# Altium integrated library TI Power Management Battery Management.IntLib: 949 symbols (part 55 of 62)
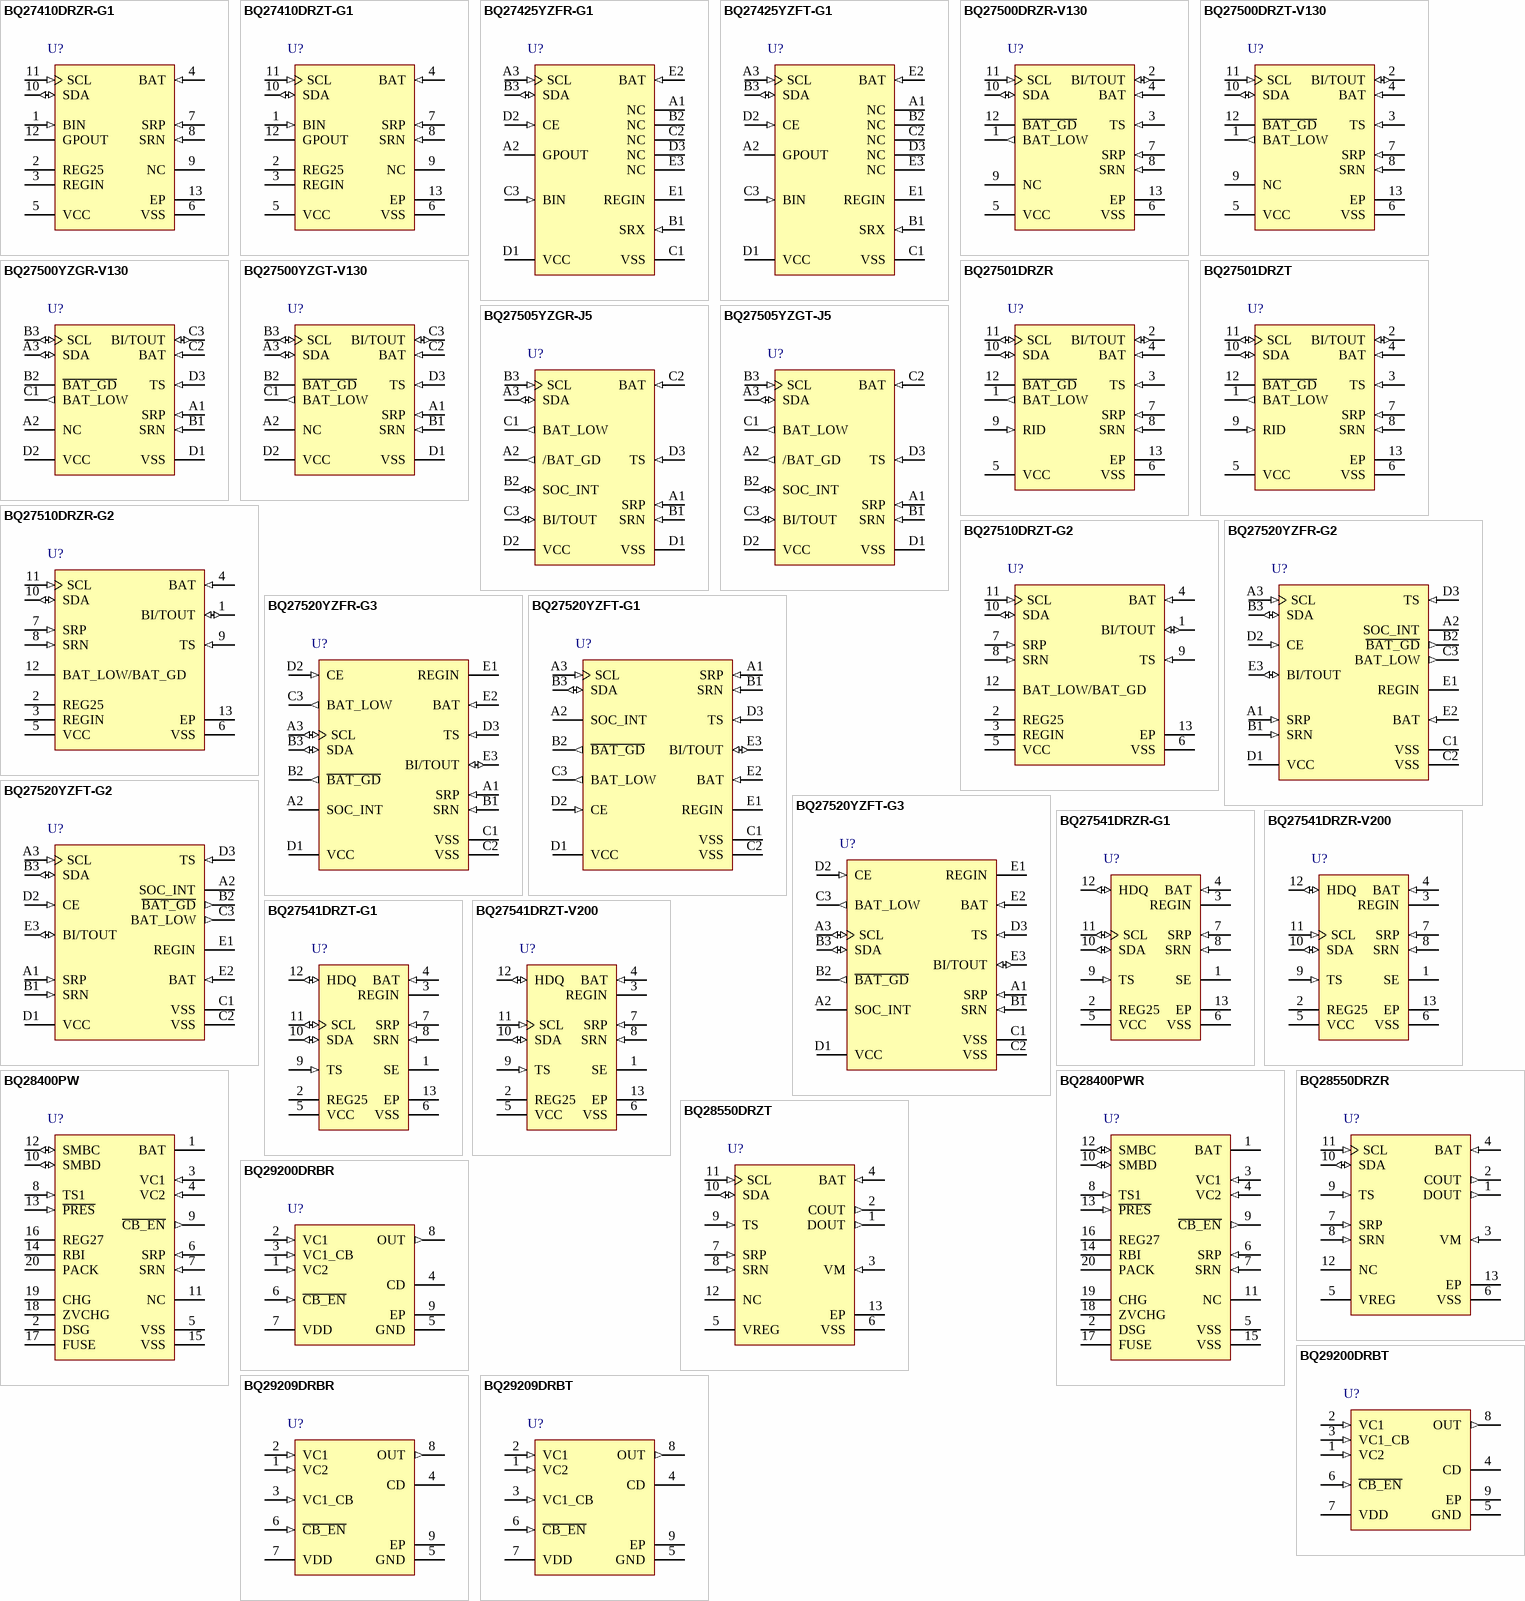
[diagram p88: symbols BQ27410DRZR-G1 to BQ29209DRBT]

## BQ27510DRZR-G2
designator U?
System-Side Impedance-Track Fuel Gauge with Direct Battery Connection, -40 to 85 degC, 12-pin SON (DRZ), Green (RoHS & no Sb/Br); PartNumber: BQ27510DRZR-G2; Manufacturer: Texas Instruments; Lead Acid: N; Li-Ion: Y; SubFamily: Battery Fuel Gauge; DatasheetVersion: SLUS948; PackageVersion: revB, Apr-2006; PackageReference: DRZ12-1950X2450TP; PackageDescription: 12-Pin Plastic Small Outline No-Lead, 4 x 2.5 x 1 mm Body, 0.4 mm Pitch, Exposed Pad, Pb-Free; Supplier 1: Digi-Key; Supplier Part Number 1: 296-27728-2-ND; Supplier 2: Digi-Key; Supplier Part Number 2: 296-27728-1-ND; Supplier 3: Digi-Key; Supplier Part Number 3: 296-27728-6-ND; Supplier 4: Newark; Supplier Part Number 4: 99R9912; Supplier 5: Mouser; Supplier Part Number 5: 595-BQ27510DRZR-G2; Eco-Plan: Green (RoHS & no Sb/Br); Li-Polymer: Y; NiCd: N; NiMH: N; Over Voltage Protection: N; Mounting Technology: Surface Mount; ComponentLink1Description: Datasheet; ComponentLink1URL: http://www.ti.com/general/docs/lit/getliterature.tsp?genericPartNumber=BQ27510-G2&fileType=pdf
footprint DRZ12-1950X2450TP (SON, 12-Leads, Body 4x2.5mm, Pitch 0.4mm, Thermal Pad 1.95x2.45mm, TI Recommended)
pins: 1 BI/TOUT (io) "Battery-insertion detection input. Power pin for pack thermistor network. Thermistor-multiplexer control pin. Open-drain I/O. Use with pull-up resistor >1M ohm (1.8 M ohm typical).", 2 REG25 (power) "2.5 V output voltage of the internal integrated LDO.", 3 REGIN (power) "The input voltage for the internal integrated LDO.", 4 BAT (in) "Cell voltage measurement input. ADC input.", 5 VCC (power) "Processor power input. Decouple with 0.1uF ceramic capacitor minimum.", 6 VSS (power) "Device ground", 7 SRP (in) "Analog input pin connected to the internal coulomb counter where SRP is nearest the PACK-connection. Connect to 5-M ohm  to 20-M ohm sense resistor.", 8 SRN (in) "Analog input pin connected to the internal coulomb counter where SRN is nearest the VSS-connection. Connect to a 5-M ohm to 20-M ohm sense resistor.", 9 TS (in) "Pack thermistor voltage sense (use 103AT-type thermistor). ADC input", 10 SDA (io) "Slave I2C serial communications data line for communication with system (Master). Open-drain I/O. Use with 10-K ohm pull-up resistor (typical).", 11 SCL (in) "Slave I2C serial communications clock input line for communication with system (Master). Use with 10-K ohm pull-up resistor (typical).", 12 BAT_LOW/BAT_GD (oc) "Battery-good or Battery-low output indicator. Desired function polarity selected through the Operation Configuration register. Open-drain output", 13 EP "Exposed pad."

## BQ27510DRZT-G2
designator U?
System-Side Impedance-Track Fuel Gauge with Direct Battery Connection, -40 to 85 degC, 12-pin SON (DRZ), Green (RoHS & no Sb/Br); PartNumber: BQ27510DRZT-G2; Manufacturer: Texas Instruments; Lead Acid: N; Li-Ion: Y; SubFamily: Battery Fuel Gauge; DatasheetVersion: SLUS948; PackageVersion: revB, Apr-2006; PackageReference: DRZ12-1950X2450TP; PackageDescription: 12-Pin Plastic Small Outline No-Lead, 4 x 2.5 x 1 mm Body, 0.4 mm Pitch, Exposed Pad, Pb-Free; Supplier 1: Digi-Key; Supplier Part Number 1: 296-31472-2-ND; Supplier 2: Digi-Key; Supplier Part Number 2: 296-31472-1-ND; Supplier 3: Digi-Key; Supplier Part Number 3: 296-31472-6-ND; Supplier 4: Newark; Supplier Part Number 4: 99R9913; Supplier 5: Mouser; Supplier Part Number 5: 595-BQ27510DRZT-G2; Eco-Plan: Green (RoHS & no Sb/Br); Li-Polymer: Y; NiCd: N; NiMH: N; Over Voltage Protection: N; Mounting Technology: Surface Mount; ComponentLink1Description: Datasheet; ComponentLink1URL: http://www.ti.com/general/docs/lit/getliterature.tsp?genericPartNumber=BQ27510-G2&fileType=pdf
footprint DRZ12-1950X2450TP (SON, 12-Leads, Body 4x2.5mm, Pitch 0.4mm, Thermal Pad 1.95x2.45mm, TI Recommended)
pins: 1 BI/TOUT (io) "Battery-insertion detection input. Power pin for pack thermistor network. Thermistor-multiplexer control pin. Open-drain I/O. Use with pull-up resistor >1M ohm (1.8 M ohm typical).", 2 REG25 (power) "2.5 V output voltage of the internal integrated LDO.", 3 REGIN (power) "The input voltage for the internal integrated LDO.", 4 BAT (in) "Cell voltage measurement input. ADC input.", 5 VCC (power) "Processor power input. Decouple with 0.1uF ceramic capacitor minimum.", 6 VSS (power) "Device ground", 7 SRP (in) "Analog input pin connected to the internal coulomb counter where SRP is nearest the PACK-connection. Connect to 5-M ohm  to 20-M ohm sense resistor.", 8 SRN (in) "Analog input pin connected to the internal coulomb counter where SRN is nearest the VSS-connection. Connect to a 5-M ohm to 20-M ohm sense resistor.", 9 TS (in) "Pack thermistor voltage sense (use 103AT-type thermistor). ADC input", 10 SDA (io) "Slave I2C serial communications data line for communication with system (Master). Open-drain I/O. Use with 10-K ohm pull-up resistor (typical).", 11 SCL (in) "Slave I2C serial communications clock input line for communication with system (Master). Use with 10-K ohm pull-up resistor (typical).", 12 BAT_LOW/BAT_GD (oc) "Battery-good or Battery-low output indicator. Desired function polarity selected through the Operation Configuration register. Open-drain output", 13 EP "Exposed pad."

## BQ27520YZFR-G2
designator U?
System-Side Impedance Track Technology Fuel Gauge with Integrated LDO, -40 to 85 degC, 15-pin DSBGA (YZF), Green (RoHS & no Sb/Br); PartNumber: BQ27520YZFR-G2; Manufacturer: Texas Instruments; SubFamily: Battery Fuel Gauge; DatasheetVersion: SLUSAB7A; PackageVersion: revM, Sep-2011; PackageReference: YZF15-2610X1956DE; PackageDescription: 15-Ball Die-Size Ball Grid Array, 2.61 x 1.96 mm Body, 0.5 mm Pitch, Pb-Free; Supplier 1: Digi-Key; Supplier Part Number 1: BQ27520YZFR-G2-ND; Supplier 2: Newark; Supplier Part Number 2: 45T7831; Supplier 3: Mouser; Supplier Part Number 3: 595-BQ27520YZFR-G2; Eco-Plan: Green (RoHS & no Sb/Br); Mounting Technology: Surface Mount; ComponentLink1Description: Datasheet; ComponentLink1URL: http://www.ti.com/general/docs/lit/getliterature.tsp?genericPartNumber=BQ27520-G2&fileType=pdf
footprint YZF15-2610X1956DE (BGA, 15-Leads, Body 2.61x1.96mm, Pitch 0.5mm)
pins: A1 SRP (in) "Analog input pin connected to the internal coulomb counter where SRP is nearest the PACK- connection. Connect to 5-m ohm to 20-m ohm sense resistor.", A2 SOC_INT (oc) "SOC state interrupts output. Generates a pulse under the conditions specified by Table 5-6. Open drain output.", A3 SCL (in) "Slave I2C serial communications clock input line for communication with system (Master). Use with 10k ohm pull-up resistor (typical).", B1 SRN (in) "Analog input pin connected to the internal coulomb counter where SRN is nearest the VSS connection. Connect to 5-m ohm to 20-m ohm sense resistor.", B2 ~{BAT_GD} (out) "Battery-good indicator.Active-low by default, though polarity can be configured through the [BATG_POL] bit of Operation Configuration. Push-pull output.", B3 SDA (io) "Slave I2C serial communications data line for communication with system (Master). Open-drain I/O. Use with 10k ohm pull-up resistor (typical).", C1 VSS (power) "Device ground", C2 VSS (power) "Device ground", C3 BAT_LOW (out) "Battery low output indicator.Active high by default,though polarity can be configured through the [BATL_POL] bit of Operation Configuration. Push-pull output.", D1 VCC (power) "Regulator output and bq27520-G2 processor power. Decouple with 1uF ceramic capacitor to Vss.", D2 CE (in) "Chip Enable. Internal LDO is disconnected from REGIN when driven low.", D3 TS (in) "Pack thermistor voltage sense (use 103AT-type thermistor). ADC input.", E1 REGIN (power) "Regulator input. Decouple with 0.1uF ceramic capacitor to Vss.", E2 BAT (in) "Cell-voltage measurement input. ADC input. Recommend 4.8V maximum for conversion accuracy.", E3 BI/TOUT (io) "Battery-insertion detection input.Power pin for pack thermistor network. Thermistor-multiplexer control pin. Use with pull-up resistor>1M ohm (1.8 M ohm typical)."

## BQ27520YZFR-G3
designator U?
System-Side Impedance Track Fuel Gauge with Integrated LDO, -40 to 85 degC, 15-pin DSBGA (YZF), Green (RoHS & no Sb/Br); PartNumber: BQ27520YZFR-G3; Manufacturer: Texas Instruments; Lead Acid: N; Li-Ion: Y; SubFamily: Battery Fuel Gauge; DatasheetVersion: SLUSAP0; PackageVersion: revM, Sep-2011; PackageReference: YZF15-2610X1956DE; PackageDescription: 15-Ball Die-Size Ball Grid Array, 2.61 x 1.96 mm Body, 0.5 mm Pitch, Pb-Free; Supplier 1: Digi-Key; Supplier Part Number 1: BQ27520YZFR-G3-ND; Supplier 2: Newark; Supplier Part Number 2: 86T9105; Supplier 3: Mouser; Supplier Part Number 3: 595-BQ27520YZFR-G3; Eco-Plan: Green (RoHS & no Sb/Br); Li-Polymer: Y; NiCd: N; NiMH: N; Over Voltage Protection: N; Mounting Technology: Surface Mount; ComponentLink1Description: Datasheet; ComponentLink1URL: http://www.ti.com/general/docs/lit/getliterature.tsp?genericPartNumber=BQ27520-G3&fileType=pdf
footprint YZF15-2610X1956DE (BGA, 15-Leads, Body 2.61x1.96mm, Pitch 0.5mm)
pins: A1 SRP (in) "Analog input pin connected to the internal coulomb counter with a Kelvin connection where SRP is nearest the PACK- connection. Connect to 5-mohm to 20-mohm sense resistor.", A2 SOC_INT (oc) "SOC state interrupts output. Generates a pulse under the conditions specified by Table 5-6. Open drain output.", A3 SCL (io) "Slave I2C serial communications clock input line for communication with system (Master). Open-drain I/O. Use with 10kohm pull-up resistor (typical).", B1 SRN (in) "Analog input pin connected to the internal coulomb counter with a Kelvin connection where SRN is nearest the Vss connection. Connect to 5-mohm to 20-mohm sense resistor.", B2 ~{BAT_GD} (out) "Battery-good indicator. Active-low by default, though polarity can be configured through the [BATG_POL] bit of Operation Configuration. Push-pull output.", B3 SDA (io) "Slave I2C serial communications data line for communication with system (Master). Open-drain I/O. Use with 10kohm pull-up resistor (typical).", C1 VSS (power) "Device ground", C2 VSS (power) "Device ground", C3 BAT_LOW (out) "Battery Low output indicator. Active high by default, though polarity can be configured through the [BATL_POL] bit of Operation Configuration. Push-pull output.", D1 VCC (power) "Regulator output and bq27520-G3 processor power. Decouple with 1uF ceramic capacitor to Vss.", D2 CE (in) "Chip Enable. Internal LDO is disconnected from REGIN when driven low.", D3 TS (in) "Pack thermistor voltage sense (use 103AT-type thermistor). ADC input.", E1 REGIN (power) "Regulator input. Decouple with 0.1uF ceramic capacitor to Vss.", E2 BAT (in) "Cell-voltage measurement input. ADC input. Recommend 4.8V maximum for conversion accuracy.", E3 BI/TOUT (io) "Battery-insertion detection input. Power pin for pack thermistor network. Thermistor-multiplexer control pin. Use with pull-up resistor >1Mohm (1.8Mohm typical)."

## BQ27520YZFT-G1
designator U?
System-Side Impedance Track Fuel Gauge with Integrated LDO, -40 to 85 degC, 15-pin DSBGA (YZF), Green (RoHS & no Sb/Br); PartNumber: BQ27520YZFT-G1; Manufacturer: Texas Instruments; SubFamily: Battery Fuel Gauge; DatasheetVersion: SLUS955A; PackageVersion: revM, Sep-2011; PackageReference: YZF15-2610X1956DE; PackageDescription: 15-Ball Die-Size Ball Grid Array, 2.61 x 1.96 mm Body, 0.5 mm Pitch, Pb-Free; Supplier 1: Digi-Key; Supplier Part Number 1: 296-27621-2-ND; Supplier 2: Digi-Key; Supplier Part Number 2: 296-27621-1-ND; Supplier 3: Digi-Key; Supplier Part Number 3: 296-27621-6-ND; Supplier 4: Newark; Supplier Part Number 4: 79R7891; Supplier 5: Mouser; Supplier Part Number 5: 595-BQ27520YZFT-G1; Eco-Plan: Green (RoHS & no Sb/Br); Mounting Technology: Surface Mount; ComponentLink1Description: Datasheet; ComponentLink1URL: http://www.ti.com/general/docs/lit/getliterature.tsp?genericPartNumber=BQ27520-G1&fileType=pdf
footprint YZF15-2610X1956DE (BGA, 15-Leads, Body 2.61x1.96mm, Pitch 0.5mm)
pins: A1 SRP (in) "Analog input pin connected to the internal coulomb counter where SRP is nearest the PACK- connection. Connect to 5-mohm to 20-mohm sense resistor.", A2 SOC_INT (oc) "SOC state interrupts output. Generate a pulse under the conditions specified by Table 5-6. Open drain output.", A3 SCL (in) "Slave I2C serial communications clock input line for communication with system (Master). Use with 10kohm pull-up resistor (typical).", B1 SRN (in) "Analog input pin connected to the internal coulomb counter where SRN is nearest the Vss connection. Connect to 5-mohm to 20-mohm sense resistor.", B2 ~{BAT_GD} (out) "Battery-good indicator. Active-low by default, though polarity can be configured through the [BATG_POL] bit of Operation Configuration. Push-pull output.", B3 SDA (io) "Slave I2C C serial communications data line for communication with system (Master). Open-drain I/O. Use with 10kohm pull-up resistor (typical).", C1 VSS (power) "Device ground", C2 VSS (power) "Device ground", C3 BAT_LOW (out) "Battery Low output indicator. Active high by default, though polarity can be configured through the [BATL_POL] bit of Operation Configuration. Push-pull output.", D1 VCC (power) "Regulator output and bq27520-G1 power. Decouple with 1uF ceramic capacitor to Vss.", D2 CE (in) "Chip Enable. Internal LDO is disconnected from REGIN when driven low.", D3 TS (in) "Pack thermistor voltage sense (use 103AT-type thermistor). ADC input.", E1 REGIN (power) "Regulator input. Decouple with 0.1uF ceramic capacitor to Vss.", E2 BAT (in) "Cell-voltage measurement input. ADC input. Recommend 4.8V maximum for conversion accuracy.", E3 BI/TOUT (io) "Battery-insertion detection input. Power pin for pack thermistor network. Thermistor-multiplexer control pin. Use with pull-up resistor >1Mohm (1.8 Mohm typical)."

## BQ27520YZFT-G2
designator U?
System-Side Impedance Track Technology Fuel Gauge with Integrated LDO, -40 to 85 degC, 15-pin DSBGA (YZF), Green (RoHS & no Sb/Br); PartNumber: BQ27520YZFT-G2; Manufacturer: Texas Instruments; SubFamily: Battery Fuel Gauge; DatasheetVersion: SLUSAB7A; PackageVersion: revM, Sep-2011; PackageReference: YZF15-2610X1956DE; PackageDescription: 15-Ball Die-Size Ball Grid Array, 2.61 x 1.96 mm Body, 0.5 mm Pitch, Pb-Free; Supplier 1: Digi-Key; Supplier Part Number 1: 296-28421-2-ND; Supplier 2: Digi-Key; Supplier Part Number 2: 296-28421-1-ND; Supplier 3: Digi-Key; Supplier Part Number 3: 296-28421-6-ND; Supplier 4: Mouser; Supplier Part Number 4: 595-BQ27520YZFT-G2; Eco-Plan: Green (RoHS & no Sb/Br); Mounting Technology: Surface Mount; ComponentLink1Description: Datasheet; ComponentLink1URL: http://www.ti.com/general/docs/lit/getliterature.tsp?genericPartNumber=BQ27520-G2&fileType=pdf
footprint YZF15-2610X1956DE (BGA, 15-Leads, Body 2.61x1.96mm, Pitch 0.5mm)
pins: A1 SRP (in) "Analog input pin connected to the internal coulomb counter where SRP is nearest the PACK- connection. Connect to 5-m ohm to 20-m ohm sense resistor.", A2 SOC_INT (oc) "SOC state interrupts output. Generates a pulse under the conditions specified by Table 5-6. Open drain output.", A3 SCL (in) "Slave I2C serial communications clock input line for communication with system (Master). Use with 10k ohm pull-up resistor (typical).", B1 SRN (in) "Analog input pin connected to the internal coulomb counter where SRN is nearest the VSS connection. Connect to 5-m ohm to 20-m ohm sense resistor.", B2 ~{BAT_GD} (out) "Battery-good indicator.Active-low by default, though polarity can be configured through the [BATG_POL] bit of Operation Configuration. Push-pull output.", B3 SDA (io) "Slave I2C serial communications data line for communication with system (Master). Open-drain I/O. Use with 10k ohm pull-up resistor (typical).", C1 VSS (power) "Device ground", C2 VSS (power) "Device ground", C3 BAT_LOW (out) "Battery low output indicator.Active high by default,though polarity can be configured through the [BATL_POL] bit of Operation Configuration. Push-pull output.", D1 VCC (power) "Regulator output and bq27520-G2 processor power. Decouple with 1uF ceramic capacitor to Vss.", D2 CE (in) "Chip Enable. Internal LDO is disconnected from REGIN when driven low.", D3 TS (in) "Pack thermistor voltage sense (use 103AT-type thermistor). ADC input.", E1 REGIN (power) "Regulator input. Decouple with 0.1uF ceramic capacitor to Vss.", E2 BAT (in) "Cell-voltage measurement input. ADC input. Recommend 4.8V maximum for conversion accuracy.", E3 BI/TOUT (io) "Battery-insertion detection input.Power pin for pack thermistor network. Thermistor-multiplexer control pin. Use with pull-up resistor>1M ohm (1.8 M ohm typical)."

## BQ27520YZFT-G3
designator U?
System-Side Impedance Track Fuel Gauge with Integrated LDO, -40 to 85 degC, 15-pin DSBGA (YZF), Green (RoHS & no Sb/Br); PartNumber: BQ27520YZFT-G3; Manufacturer: Texas Instruments; Lead Acid: N; Li-Ion: Y; SubFamily: Battery Fuel Gauge; DatasheetVersion: SLUSAP0; PackageVersion: revM, Sep-2011; PackageReference: YZF15-2610X1956DE; PackageDescription: 15-Ball Die-Size Ball Grid Array, 2.61 x 1.96 mm Body, 0.5 mm Pitch, Pb-Free; Supplier 1: Digi-Key; Supplier Part Number 1: BQ27520YZFT-G3-ND; Supplier 2: Newark; Supplier Part Number 2: 86T9106; Supplier 3: Mouser; Supplier Part Number 3: 595-BQ27520YZFT-G3; Eco-Plan: Green (RoHS & no Sb/Br); Li-Polymer: Y; NiCd: N; NiMH: N; Over Voltage Protection: N; Mounting Technology: Surface Mount; ComponentLink1Description: Datasheet; ComponentLink1URL: http://www.ti.com/general/docs/lit/getliterature.tsp?genericPartNumber=BQ27520-G3&fileType=pdf
footprint YZF15-2610X1956DE (BGA, 15-Leads, Body 2.61x1.96mm, Pitch 0.5mm)
pins: A1 SRP (in) "Analog input pin connected to the internal coulomb counter with a Kelvin connection where SRP is nearest the PACK- connection. Connect to 5-mohm to 20-mohm sense resistor.", A2 SOC_INT (oc) "SOC state interrupts output. Generates a pulse under the conditions specified by Table 5-6. Open drain output.", A3 SCL (io) "Slave I2C serial communications clock input line for communication with system (Master). Open-drain I/O. Use with 10kohm pull-up resistor (typical).", B1 SRN (in) "Analog input pin connected to the internal coulomb counter with a Kelvin connection where SRN is nearest the Vss connection. Connect to 5-mohm to 20-mohm sense resistor.", B2 ~{BAT_GD} (out) "Battery-good indicator. Active-low by default, though polarity can be configured through the [BATG_POL] bit of Operation Configuration. Push-pull output.", B3 SDA (io) "Slave I2C serial communications data line for communication with system (Master). Open-drain I/O. Use with 10kohm pull-up resistor (typical).", C1 VSS (power) "Device ground", C2 VSS (power) "Device ground", C3 BAT_LOW (out) "Battery Low output indicator. Active high by default, though polarity can be configured through the [BATL_POL] bit of Operation Configuration. Push-pull output.", D1 VCC (power) "Regulator output and bq27520-G3 processor power. Decouple with 1uF ceramic capacitor to Vss.", D2 CE (in) "Chip Enable. Internal LDO is disconnected from REGIN when driven low.", D3 TS (in) "Pack thermistor voltage sense (use 103AT-type thermistor). ADC input.", E1 REGIN (power) "Regulator input. Decouple with 0.1uF ceramic capacitor to Vss.", E2 BAT (in) "Cell-voltage measurement input. ADC input. Recommend 4.8V maximum for conversion accuracy.", E3 BI/TOUT (io) "Battery-insertion detection input. Power pin for pack thermistor network. Thermistor-multiplexer control pin. Use with pull-up resistor >1Mohm (1.8Mohm typical)."

## BQ27541DRZR-G1
designator U?
Pack-Side Impedance Track Battery Fuel Gauge with Integrated LDO, -40 to 85 degC, 12-pin SON (DRZ), Green (RoHS & no Sb/Br); PartNumber: BQ27541DRZR-G1; Manufacturer: Texas Instruments; Lead Acid: N; Li-Ion: Y; DatasheetVersion: SLUSAL6B; PackageVersion: revB, Apr-2006; PackageReference: DRZ12-1950X2450TP; PackageDescription: 12-Pin Plastic Small Outline No-Lead, 4 x 2.5 x 1 mm Body, 0.4 mm Pitch, Exposed Pad, Pb-Free; Supplier 1: Mouser; Supplier Part Number 1: N/A; Eco-Plan: Green (RoHS & no Sb/Br); Li-Polymer: Y; NiCd: N; NiMH: N; Over Voltage Protection: N; SubFamily: Battery Fuel Gauge; Mounting Technology: Surface Mount; ComponentLink1Description: Datasheet; ComponentLink1URL: http://www.ti.com/general/docs/lit/getliterature.tsp?genericPartNumber=BQ27541-G1&fileType=pdf
footprint DRZ12-1950X2450TP (SON, 12-Leads, Body 4x2.5mm, Pitch 0.4mm, Thermal Pad 1.95x2.45mm, TI Recommended)
pins: 1 SE (hiz) "Shutdown Enable output. Push-pull output. Leave Floating when it is not used.", 2 REG25 (power) "2.5V output voltage of the internal integrated LDO. Connect a minimum 0.47uF ceramic capacitor.", 3 REGIN (power) "The input voltage for the internal integrated LDO. Connect a 0.1uF ceramic capacitor.", 4 BAT (in) "Cell-voltage measurement input. ADC input. Decouple with 0.1uF capacitor.", 5 VCC (power) "Processor power input. The minimum 0.47uF capacitor connected to REG25 should be close to Vcc.", 6 VSS (power) "Device ground", 7 SRP (in) "Analog input pin connected to the internal coulomb counter with a Kelvin connection where SRP is nearest the CELL- connection. Connect to 5-m ohm to 20-m ohm sense resistor", 8 SRN (in) "Analog input pin connected to the internal coulomb counter with a Kelvin connection where SRN is nearest the PACK- connection. Connect to 5-m ohm to 20-m ohm sense resistor.", 9 TS (in) "Pack thermistor voltage sense (use 103AT-type thermistor). ADC input", 10 SDA (io) "Slave I2C serial communications data line for communication with system (Slave). Open-drain I/O. Use with 10k ohm pull-up resistor (typical).", 11 SCL (io) "Slave I2C serial communications clock input line for communication with system (Slave). Open-drain I/O.Use with 10k ohm pull-up resistor (typical).", 12 HDQ (io) "HDQ serial communications line (Slave). Open-drain. Use with 10k ohm pull-up resistor (typical) or leave floating when it is not used.", 13 EP "Exposed pad"

## BQ27541DRZR-V200
designator U?
Single Cell Li-Ion Battery Fuel Gauge for Battery Pack Integration, -40 to 85 degC, 12-pin SON (DRZ), Green (RoHS & no Sb/Br); PartNumber: BQ27541DRZR-V200; Manufacturer: Texas Instruments; Lead Acid: N; Li-Ion: Y; DatasheetVersion: SLUSA11A; PackageVersion: revB, Apr-2006; PackageReference: DRZ12-1950X2450TP; PackageDescription: 12-Pin Plastic Small Outline No-Lead, 4 x 2.5 x 1 mm Body, 0.4 mm Pitch, Exposed Pad, Pb-Free; Supplier 1: Digi-Key; Supplier Part Number 1: BQ27541DRZR-V200-ND; Supplier 2: Newark; Supplier Part Number 2: 72T3407; Supplier 3: Mouser; Supplier Part Number 3: 595-BQ27541DRZR-V200; Eco-Plan: Green (RoHS & no Sb/Br); Li-Polymer: Y; NiCd: N; NiMH: N; Over Voltage Protection: N; SubFamily: Battery Fuel Gauge; Mounting Technology: Surface Mount; ComponentLink1Description: Datasheet; ComponentLink1URL: http://www.ti.com/general/docs/lit/getliterature.tsp?genericPartNumber=BQ27541-V200&fileType=pdf
footprint DRZ12-1950X2450TP (SON, 12-Leads, Body 4x2.5mm, Pitch 0.4mm, Thermal Pad 1.95x2.45mm, TI Recommended)
pins: 1 SE (hiz) "Shutdown Enable output. Push-pull output.", 2 REG25 (power) "2.5V output voltage of the internal integrated LDO. Connect a minimum 0.47uF ceramic capacitor.", 3 REGIN (power) "The input voltage for the internal integrated LDO. Connect a 0.1uF ceramic capacitor.", 4 BAT (in) "Cell-voltage measurement input. ADC input. Decouple with 0.1uF capacitor.", 5 VCC (power) "Processor power input. The minimum 0.47uF capacitor connected to REG25 should be close to Vcc.", 6 VSS (power) "Device ground", 7 SRP (in) "Analog input pin connected to the internal coulomb counter where SRP is nearest the CELL- connection.Connect to 5-mohm to 20-mohm sense resistor", 8 SRN (in) "Analog input pin connected to the internal coulomb counter where SRN is nearest the PACK- connection.Connect to 5-mohm to 20-mohm sense resistor.", 9 TS (in) "Pack thermistor voltage sense (use 103AT-type thermistor). ADC input", 10 SDA (io) "Slave I2C serial communications data line for communication with system (Slave). Open-drain I/O. Use with 10k ohm pull-up resistor (typical).", 11 SCL (in) "Slave I2C serial communications clock input line for communication with system (Slave). Use with 10k ohm pull-up resistor (typical).", 12 HDQ (io) "HDQ serial communications line (Slave). Open-drain.", 13 EP "Exposed pad"

## BQ27541DRZT-G1
designator U?
Pack-Side Impedance Track Battery Fuel Gauge with Integrated LDO, -40 to 85 degC, 12-pin SON (DRZ), Green (RoHS & no Sb/Br); PartNumber: BQ27541DRZT-G1; Manufacturer: Texas Instruments; Lead Acid: N; Li-Ion: Y; DatasheetVersion: SLUSAL6B; PackageVersion: revB, Apr-2006; PackageReference: DRZ12-1950X2450TP; PackageDescription: 12-Pin Plastic Small Outline No-Lead, 4 x 2.5 x 1 mm Body, 0.4 mm Pitch, Exposed Pad, Pb-Free; Supplier 1: Mouser; Supplier Part Number 1: N/A; Eco-Plan: Green (RoHS & no Sb/Br); Li-Polymer: Y; NiCd: N; NiMH: N; Over Voltage Protection: N; SubFamily: Battery Fuel Gauge; Mounting Technology: Surface Mount; ComponentLink1Description: Datasheet; ComponentLink1URL: http://www.ti.com/general/docs/lit/getliterature.tsp?genericPartNumber=BQ27541-G1&fileType=pdf
footprint DRZ12-1950X2450TP (SON, 12-Leads, Body 4x2.5mm, Pitch 0.4mm, Thermal Pad 1.95x2.45mm, TI Recommended)
pins: 1 SE (hiz) "Shutdown Enable output. Push-pull output. Leave Floating when it is not used.", 2 REG25 (power) "2.5V output voltage of the internal integrated LDO. Connect a minimum 0.47uF ceramic capacitor.", 3 REGIN (power) "The input voltage for the internal integrated LDO. Connect a 0.1uF ceramic capacitor.", 4 BAT (in) "Cell-voltage measurement input. ADC input. Decouple with 0.1uF capacitor.", 5 VCC (power) "Processor power input. The minimum 0.47uF capacitor connected to REG25 should be close to Vcc.", 6 VSS (power) "Device ground", 7 SRP (in) "Analog input pin connected to the internal coulomb counter with a Kelvin connection where SRP is nearest the CELL- connection. Connect to 5-m ohm to 20-m ohm sense resistor", 8 SRN (in) "Analog input pin connected to the internal coulomb counter with a Kelvin connection where SRN is nearest the PACK- connection. Connect to 5-m ohm to 20-m ohm sense resistor.", 9 TS (in) "Pack thermistor voltage sense (use 103AT-type thermistor). ADC input", 10 SDA (io) "Slave I2C serial communications data line for communication with system (Slave). Open-drain I/O. Use with 10k ohm pull-up resistor (typical).", 11 SCL (io) "Slave I2C serial communications clock input line for communication with system (Slave). Open-drain I/O.Use with 10k ohm pull-up resistor (typical).", 12 HDQ (io) "HDQ serial communications line (Slave). Open-drain. Use with 10k ohm pull-up resistor (typical) or leave floating when it is not used.", 13 EP "Exposed pad"

## BQ27541DRZT-V200
designator U?
Single Cell Li-Ion Battery Fuel Gauge for Battery Pack Integration, -40 to 85 degC, 12-pin SON (DRZ), Green (RoHS & no Sb/Br); PartNumber: BQ27541DRZT-V200; Manufacturer: Texas Instruments; Lead Acid: N; Li-Ion: Y; DatasheetVersion: SLUSA11A; PackageVersion: revB, Apr-2006; PackageReference: DRZ12-1950X2450TP; PackageDescription: 12-Pin Plastic Small Outline No-Lead, 4 x 2.5 x 1 mm Body, 0.4 mm Pitch, Exposed Pad, Pb-Free; Supplier 1: Digi-Key; Supplier Part Number 1: 296-25835-2-ND; Supplier 2: Digi-Key; Supplier Part Number 2: 296-25835-1-ND; Supplier 3: Digi-Key; Supplier Part Number 3: 296-25835-6-ND; Supplier 4: Farnell; Supplier Part Number 4: 1815720; Supplier 5: Farnell; Supplier Part Number 5: 1815720RL; Supplier 6: Newark; Supplier Part Number 6: 67R1112; Supplier 7: Mouser; Supplier Part Number 7: 595-BQ27541DRZT-V200; Eco-Plan: Green (RoHS & no Sb/Br); Li-Polymer: Y; NiCd: N; NiMH: N; Over Voltage Protection: N; SubFamily: Battery Fuel Gauge; Mounting Technology: Surface Mount; ComponentLink1Description: Datasheet; ComponentLink1URL: http://www.ti.com/general/docs/lit/getliterature.tsp?genericPartNumber=BQ27541-V200&fileType=pdf
footprint DRZ12-1950X2450TP (SON, 12-Leads, Body 4x2.5mm, Pitch 0.4mm, Thermal Pad 1.95x2.45mm, TI Recommended)
pins: 1 SE (hiz) "Shutdown Enable output. Push-pull output.", 2 REG25 (power) "2.5V output voltage of the internal integrated LDO. Connect a minimum 0.47uF ceramic capacitor.", 3 REGIN (power) "The input voltage for the internal integrated LDO. Connect a 0.1uF ceramic capacitor.", 4 BAT (in) "Cell-voltage measurement input. ADC input. Decouple with 0.1uF capacitor.", 5 VCC (power) "Processor power input. The minimum 0.47uF capacitor connected to REG25 should be close to Vcc.", 6 VSS (power) "Device ground", 7 SRP (in) "Analog input pin connected to the internal coulomb counter where SRP is nearest the CELL- connection.Connect to 5-mohm to 20-mohm sense resistor", 8 SRN (in) "Analog input pin connected to the internal coulomb counter where SRN is nearest the PACK- connection.Connect to 5-mohm to 20-mohm sense resistor.", 9 TS (in) "Pack thermistor voltage sense (use 103AT-type thermistor). ADC input", 10 SDA (io) "Slave I2C serial communications data line for communication with system (Slave). Open-drain I/O. Use with 10k ohm pull-up resistor (typical).", 11 SCL (in) "Slave I2C serial communications clock input line for communication with system (Slave). Use with 10k ohm pull-up resistor (typical).", 12 HDQ (io) "HDQ serial communications line (Slave). Open-drain.", 13 EP "Exposed pad"

## BQ28400PW
designator U?
Netbook and Tablet Lithium Ion Gas Gauge and Protector, -40 to 85 degC, 20-pin TSSOP (PW), Green (RoHS & no Sb/Br); PartNumber: BQ28400PW; Manufacturer: Texas Instruments; Lead Acid: N; Li-Ion: Y; SubFamily: Battery Fuel Gauge; DatasheetVersion: SLUSA61A; PackageVersion: revG, Feb-2011; PackageReference: PW20; PackageDescription: 20-Pin Plastic Thin Small Outline Package 6.5 x 4.4 mm Body ,0.65 mm Pitch; Supplier 1: Digi-Key; Supplier Part Number 1: 296-32838-5-ND; Supplier 2: Mouser; Supplier Part Number 2: 595-BQ28400PW; Eco-Plan: Green (RoHS & no Sb/Br); Li-Polymer: N; NiCd: N; NiMH: N; Over Voltage Protection: N; Mounting Technology: Surface Mount; Code_JEDEC: MO-153; ComponentLink1Description: Datasheet; ComponentLink1URL: http://www.ti.com/general/docs/lit/getliterature.tsp?genericPartNumber=BQ28400&fileType=pdf
footprint PW20_N (TSOP, 20-Leads, Body 6.5x4.4mm, Pitch 0.65mm, IPC Medium Density)
footprint PW20_L (TSOP, 20-Leads, Body 6.5x4.4mm, Pitch 0.65mm, IPC High Density)
footprint PW20_M (TSOP, 20-Leads, Body 6.5x4.4mm, Pitch 0.65mm, IPC Low Density)
pins: 1 BAT (power) "Alternate supply input", 2 DSG "P-channel discharge FET gate drive", 3 VC1 (in) "Sense input for the most positive cell. Also external cell balancing drive output for the most positive cell", 4 VC2 (in) "Sense input for the lowest cell. Also external cell balancing drive output for the lowest cell", 5 VSS (power) "Device ground", 6 SRP (in) "Differential Coulomb Counter input or SRP oversampled ADC input", 7 SRN (in) "Differential Coulomb Counter input or SRN oversampled ADC input", 8 TS1 (in) "Thermistor 1 input. Connect NTC from this pin to VSS pin", 9 ~{CB_EN} (out) "Output signal to control cell balancing", 10 SMBD (io) "SBS data", 11 NC "No connection, leave floating", 12 SMBC (io) "SBS clock", 13 ~{PRES} (in) "System present", 14 RBI (power) "RAM backup pin to provide backup potential to the internal DATA RAM if power is momentarily lost,by using a capacitor attached between RBI and VSS", 15 VSS (power) "Device ground", 16 REG27 (power) "2.7-V regulator. Connect a capacitor between REG27 and VSS", 17 FUSE "Push-pull fuse circuit drive", 18 ZVCHG "P-channel precharge FET gate drive", 19 CHG "P-channel charge FET gate drive", 20 PACK (power) "Alternate supply input"

## BQ28400PWR
designator U?
Netbook and Tablet Lithium Ion Gas Gauge and Protector, -40 to 85 degC, 20-pin TSSOP (PW), Green (RoHS & no Sb/Br); PartNumber: BQ28400PWR; Manufacturer: Texas Instruments; Lead Acid: N; Li-Ion: Y; SubFamily: Battery Fuel Gauge; DatasheetVersion: SLUSA61A; PackageVersion: revG, Feb-2011; PackageReference: PW20; PackageDescription: 20-Pin Plastic Thin Small Outline Package 6.5 x 4.4 mm Body ,0.65 mm Pitch; Supplier 1: Digi-Key; Supplier Part Number 1: 296-29244-2-ND; Supplier 2: Digi-Key; Supplier Part Number 2: 296-29244-1-ND; Supplier 3: Digi-Key; Supplier Part Number 3: 296-29244-6-ND; Supplier 4: Newark; Supplier Part Number 4: 48T4111; Supplier 5: Mouser; Supplier Part Number 5: 595-BQ28400PWR; Eco-Plan: Green (RoHS & no Sb/Br); Li-Polymer: N; NiCd: N; NiMH: N; Over Voltage Protection: N; Mounting Technology: Surface Mount; Code_JEDEC: MO-153; ComponentLink1Description: Datasheet; ComponentLink1URL: http://www.ti.com/general/docs/lit/getliterature.tsp?genericPartNumber=BQ28400&fileType=pdf
footprint PW20_N (TSOP, 20-Leads, Body 6.5x4.4mm, Pitch 0.65mm, IPC Medium Density)
footprint PW20_L (TSOP, 20-Leads, Body 6.5x4.4mm, Pitch 0.65mm, IPC High Density)
footprint PW20_M (TSOP, 20-Leads, Body 6.5x4.4mm, Pitch 0.65mm, IPC Low Density)
pins: 1 BAT (power) "Alternate supply input", 2 DSG "P-channel discharge FET gate drive", 3 VC1 (in) "Sense input for the most positive cell. Also external cell balancing drive output for the most positive cell", 4 VC2 (in) "Sense input for the lowest cell. Also external cell balancing drive output for the lowest cell", 5 VSS (power) "Device ground", 6 SRP (in) "Differential Coulomb Counter input or SRP oversampled ADC input", 7 SRN (in) "Differential Coulomb Counter input or SRN oversampled ADC input", 8 TS1 (in) "Thermistor 1 input. Connect NTC from this pin to VSS pin", 9 ~{CB_EN} (out) "Output signal to control cell balancing", 10 SMBD (io) "SBS data", 11 NC "No connection, leave floating", 12 SMBC (io) "SBS clock", 13 ~{PRES} (in) "System present", 14 RBI (power) "RAM backup pin to provide backup potential to the internal DATA RAM if power is momentarily lost,by using a capacitor attached between RBI and VSS", 15 VSS (power) "Device ground", 16 REG27 (power) "2.7-V regulator. Connect a capacitor between REG27 and VSS", 17 FUSE "Push-pull fuse circuit drive", 18 ZVCHG "P-channel precharge FET gate drive", 19 CHG "P-channel charge FET gate drive", 20 PACK (power) "Alternate supply input"

## BQ28550DRZR
designator U?
Single Cell Li-Ion Battery Gas Gauge and Protection, -40 to 85 degC, 12-pin SON (DRZ), Green (RoHS & no Sb/Br); PartNumber: BQ28550DRZR; Manufacturer: Texas Instruments; Lead Acid: N; Li-Ion: Y; SubFamily: Battery Fuel Gauge; DatasheetVersion: SLUSAJ2; PackageVersion: revB, Apr-2006; PackageReference: DRZ12-1950X2450TP; PackageDescription: 12-Pin Plastic Small Outline No-Lead, 4 x 2.5 x 1 mm Body, 0.4 mm Pitch, Exposed Pad, Pb-Free; Supplier 1: Newark; Supplier Part Number 1: 68T8959; Supplier 2: Mouser; Supplier Part Number 2: 595-BQ28550DRZR; Eco-Plan: Green (RoHS & no Sb/Br); Li-Polymer: N; NiCd: N; NiMH: N; Over Voltage Protection: N; Mounting Technology: Surface Mount; ComponentLink1Description: Datasheet; ComponentLink1URL: http://www.ti.com/general/docs/lit/getliterature.tsp?genericPartNumber=BQ28550&fileType=pdf
footprint DRZ12-1950X2450TP (SON, 12-Leads, Body 4x2.5mm, Pitch 0.4mm, Thermal Pad 1.95x2.45mm, TI Recommended)
pins: 1 DOUT (out) "The output of gate drive for discharge FET", 2 COUT (out) "The output of gate drive for charge FET", 3 VM (in) "Analog input pin connected to the PACKN through a 510-ohm resistor. Overcurrentand short-circuit protection circuits use the voltage across VM and VSS to detect if excessive charge or discharge current is flowing through the (See Datasheet)", 4 BAT (in) "Cell voltage measurement input. ADC input. Connect a 0.1-uF ceramic capacitor to VSS.", 5 VREG (power) "2.5-V output voltage of the internal integrated LDO. Connect a 0.1-uF ceramic capacitor to VSS.", 6 VSS (power) "Device ground", 7 SRP (in) "Analog input pin connected to the internal coulomb counter where SRP is nearest the CELL-connection. Connect to 5-mohm to 20-mohm sense resistor.", 8 SRN (in) "Analog input pin connected to the internal coulomb counter where SRN is nearest the PACKN connection. Connect to 5-mohm to 20-mohm sense resistor.", 9 TS (in) "Pack thermistor voltage sense (use 103AT-type thermistor), ADC input", 10 SDA (io) "Serial Data interface for SMBus", 11 SCL (in) "Serial Clock interface for SMBus", 12 NC "Pull up to VREG with 3.3-K resistor", 13 EP (power) "Thermal Pad. Connect to VSS externally on PCB."

## BQ28550DRZT
designator U?
Single Cell Li-Ion Battery Gas Gauge and Protection, -40 to 85 degC, 12-pin SON (DRZ), Green (RoHS & no Sb/Br); PartNumber: BQ28550DRZT; Manufacturer: Texas Instruments; Lead Acid: N; Li-Ion: Y; SubFamily: Battery Fuel Gauge; DatasheetVersion: SLUSAJ2; PackageVersion: revB, Apr-2006; PackageReference: DRZ12-1950X2450TP; PackageDescription: 12-Pin Plastic Small Outline No-Lead, 4 x 2.5 x 1 mm Body, 0.4 mm Pitch, Exposed Pad, Pb-Free; Supplier 1: Digi-Key; Supplier Part Number 1: 296-32037-2-ND; Supplier 2: Digi-Key; Supplier Part Number 2: 296-32037-1-ND; Supplier 3: Digi-Key; Supplier Part Number 3: 296-32037-6-ND; Supplier 4: Newark; Supplier Part Number 4: 68T8960; Supplier 5: Mouser; Supplier Part Number 5: 595-BQ28550DRZT; Eco-Plan: Green (RoHS & no Sb/Br); Li-Polymer: N; NiCd: N; NiMH: N; Over Voltage Protection: N; Mounting Technology: Surface Mount; ComponentLink1Description: Datasheet; ComponentLink1URL: http://www.ti.com/general/docs/lit/getliterature.tsp?genericPartNumber=BQ28550&fileType=pdf
footprint DRZ12-1950X2450TP (SON, 12-Leads, Body 4x2.5mm, Pitch 0.4mm, Thermal Pad 1.95x2.45mm, TI Recommended)
pins: 1 DOUT (out) "The output of gate drive for discharge FET", 2 COUT (out) "The output of gate drive for charge FET", 3 VM (in) "Analog input pin connected to the PACKN through a 510-ohm resistor. Overcurrentand short-circuit protection circuits use the voltage across VM and VSS to detect if excessive charge or discharge current is flowing through the (See Datasheet)", 4 BAT (in) "Cell voltage measurement input. ADC input. Connect a 0.1-uF ceramic capacitor to VSS.", 5 VREG (power) "2.5-V output voltage of the internal integrated LDO. Connect a 0.1-uF ceramic capacitor to VSS.", 6 VSS (power) "Device ground", 7 SRP (in) "Analog input pin connected to the internal coulomb counter where SRP is nearest the CELL-connection. Connect to 5-mohm to 20-mohm sense resistor.", 8 SRN (in) "Analog input pin connected to the internal coulomb counter where SRN is nearest the PACKN connection. Connect to 5-mohm to 20-mohm sense resistor.", 9 TS (in) "Pack thermistor voltage sense (use 103AT-type thermistor), ADC input", 10 SDA (io) "Serial Data interface for SMBus", 11 SCL (in) "Serial Clock interface for SMBus", 12 NC "Pull up to VREG with 3.3-K resistor", 13 EP (power) "Thermal Pad. Connect to VSS externally on PCB."

## BQ29200DRBR
designator U?
Voltage Protection with Automatic Cell Balance for 2-Cell Li-Ion Batteries, OVP=4.35 V, -40 to 85 degC, 8-pin SON (DRB), Green (RoHS & no Sb/Br); PartNumber: BQ29200DRBR; Manufacturer: Texas Instruments; Lead Acid: N; SubFamily: Lithium Ion Protection; DatasheetVersion: SLUSA52A; PackageVersion: revK, Jun-2012; PackageReference: DRB8-2400X1650TP; PackageDescription: 8-Pin Plastic Small Outline No-Lead, 3 x 3 x 1 mm Body, 0.65 mm Pitch, Exposed Pad; Supplier 1: Digi-Key; Supplier Part Number 1: 296-27668-2-ND; Supplier 2: Digi-Key; Supplier Part Number 2: 296-27668-1-ND; Supplier 3: Digi-Key; Supplier Part Number 3: 296-27668-6-ND; Supplier 4: Newark; Supplier Part Number 4: 83R9419; Supplier 5: Mouser; Supplier Part Number 5: 595-BQ29200DRBR; Eco-Plan: Green (RoHS & no Sb/Br); Li-Ion: N; Li-Polymer: N; NiCd: N; NiMH: N; Over Voltage Protection: N; Mounting Technology: Surface Mount; ComponentLink1Description: Datasheet; ComponentLink1URL: http://www.ti.com/general/docs/lit/getliterature.tsp?genericPartNumber=BQ29200&fileType=pdf
footprint DRB8-2400X1650TP (SON, 8-Leads, Body 3x3mm, Pitch 0.65mm, Thermal Pad 2.4x1.65mm, TI Recommended)
pins: 1 VC2 (in) "Sense voltage input for top cell", 2 VC1 (in) "Sense voltage input for bottom cell", 3 VC1_CB (in) "Cell balance input for bottom cell", 4 CD "Connection to external capacitor for programmable delay time", 5 GND (power) "Ground pin", 6 ~{CB_EN} (in) "Cell balance enable", 7 VDD (power) "Power supply", 8 OUT (out) "Output", 9 EP "Exposed Pad"

## BQ29200DRBT
designator U?
Voltage Protection with Automatic Cell Balance for 2-Cell Li-Ion Batteries, OVP=4.35 V, -40 to 85 degC, 8-pin SON (DRB), Green (RoHS & no Sb/Br); PartNumber: BQ29200DRBT; Manufacturer: Texas Instruments; Lead Acid: N; SubFamily: Lithium Ion Protection; DatasheetVersion: SLUSA52A; PackageVersion: revK, Jun-2012; PackageReference: DRB8-2400X1650TP; PackageDescription: 8-Pin Plastic Small Outline No-Lead, 3 x 3 x 1 mm Body, 0.65 mm Pitch, Exposed Pad; Supplier 1: Digi-Key; Supplier Part Number 1: 296-32038-2-ND; Supplier 2: Digi-Key; Supplier Part Number 2: 296-32038-1-ND; Supplier 3: Digi-Key; Supplier Part Number 3: 296-32038-6-ND; Supplier 4: Newark; Supplier Part Number 4: 83R9420; Supplier 5: Mouser; Supplier Part Number 5: 595-BQ29200DRBT; Eco-Plan: Green (RoHS & no Sb/Br); Li-Ion: N; Li-Polymer: N; NiCd: N; NiMH: N; Over Voltage Protection: N; Mounting Technology: Surface Mount; ComponentLink1Description: Datasheet; ComponentLink1URL: http://www.ti.com/general/docs/lit/getliterature.tsp?genericPartNumber=BQ29200&fileType=pdf
footprint DRB8-2400X1650TP (SON, 8-Leads, Body 3x3mm, Pitch 0.65mm, Thermal Pad 2.4x1.65mm, TI Recommended)
pins: 1 VC2 (in) "Sense voltage input for top cell", 2 VC1 (in) "Sense voltage input for bottom cell", 3 VC1_CB (in) "Cell balance input for bottom cell", 4 CD "Connection to external capacitor for programmable delay time", 5 GND (power) "Ground pin", 6 ~{CB_EN} (in) "Cell balance enable", 7 VDD (power) "Power supply", 8 OUT (out) "Output", 9 EP "Exposed Pad"

## BQ29209DRBR
designator U?
Voltage Protection with Automatic Cell Balance for 2-Cell Li-Ion Batteries, OVP=4.3 V, -40 to 85 degC, 8-pin SON (DRB), Green (RoHS & no Sb/Br); PartNumber: BQ29209DRBR; Manufacturer: Texas Instruments; Lead Acid: N; SubFamily: Lithium Ion Protection; DatasheetVersion: SLUSA52A; PackageVersion: revK, Jun-2012; PackageReference: DRB8-2400X1650TP; PackageDescription: 8-Pin Plastic Small Outline No-Lead, 3 x 3 x 1 mm Body, 0.65 mm Pitch, Exposed Pad; Supplier 1: Digi-Key; Supplier Part Number 1: 296-27677-2-ND; Supplier 2: Digi-Key; Supplier Part Number 2: 296-27677-1-ND; Supplier 3: Digi-Key; Supplier Part Number 3: 296-27677-6-ND; Supplier 4: Mouser; Supplier Part Number 4: 595-BQ29209DRBR; Eco-Plan: Green (RoHS & no Sb/Br); Li-Ion: N; Li-Polymer: N; NiCd: N; NiMH: N; Over Voltage Protection: N; Mounting Technology: Surface Mount; ComponentLink1Description: Datasheet; ComponentLink1URL: http://www.ti.com/general/docs/lit/getliterature.tsp?genericPartNumber=BQ29209&fileType=pdf
footprint DRB8-2400X1650TP (SON, 8-Leads, Body 3x3mm, Pitch 0.65mm, Thermal Pad 2.4x1.65mm, TI Recommended)
pins: 1 VC2 (in) "Sense voltage input for top cell", 2 VC1 (in) "Sense voltage input for bottom cell", 3 VC1_CB (in) "Cell balance input for bottom cell", 4 CD "Connection to external capacitor for programmable delay time", 5 GND (power) "Ground pin", 6 ~{CB_EN} (in) "Cell balance enable", 7 VDD (power) "Power supply", 8 OUT (out) "Output", 9 EP "Exposed Thermal Pad"

## BQ29209DRBT
designator U?
Voltage Protection with Automatic Cell Balance for 2-Cell Li-Ion Batteries, OVP=4.3 V, -40 to 85 degC, 8-pin SON (DRB), Green (RoHS & no Sb/Br); PartNumber: BQ29209DRBT; Manufacturer: Texas Instruments; Lead Acid: N; SubFamily: Lithium Ion Protection; DatasheetVersion: SLUSA52A; PackageVersion: revK, Jun-2012; PackageReference: DRB8-2400X1650TP; PackageDescription: 8-Pin Plastic Small Outline No-Lead, 3 x 3 x 1 mm Body, 0.65 mm Pitch, Exposed Pad; Supplier 1: Digi-Key; Supplier Part Number 1: BQ29209DRBT-ND; Supplier 2: Newark; Supplier Part Number 2: 83R9422; Supplier 3: Mouser; Supplier Part Number 3: 595-BQ29209DRBT; Eco-Plan: Green (RoHS & no Sb/Br); Li-Ion: N; Li-Polymer: N; NiCd: N; NiMH: N; Over Voltage Protection: N; Mounting Technology: Surface Mount; ComponentLink1Description: Datasheet; ComponentLink1URL: http://www.ti.com/general/docs/lit/getliterature.tsp?genericPartNumber=BQ29209&fileType=pdf
footprint DRB8-2400X1650TP (SON, 8-Leads, Body 3x3mm, Pitch 0.65mm, Thermal Pad 2.4x1.65mm, TI Recommended)
pins: 1 VC2 (in) "Sense voltage input for top cell", 2 VC1 (in) "Sense voltage input for bottom cell", 3 VC1_CB (in) "Cell balance input for bottom cell", 4 CD "Connection to external capacitor for programmable delay time", 5 GND (power) "Ground pin", 6 ~{CB_EN} (in) "Cell balance enable", 7 VDD (power) "Power supply", 8 OUT (out) "Output", 9 EP "Exposed Thermal Pad"

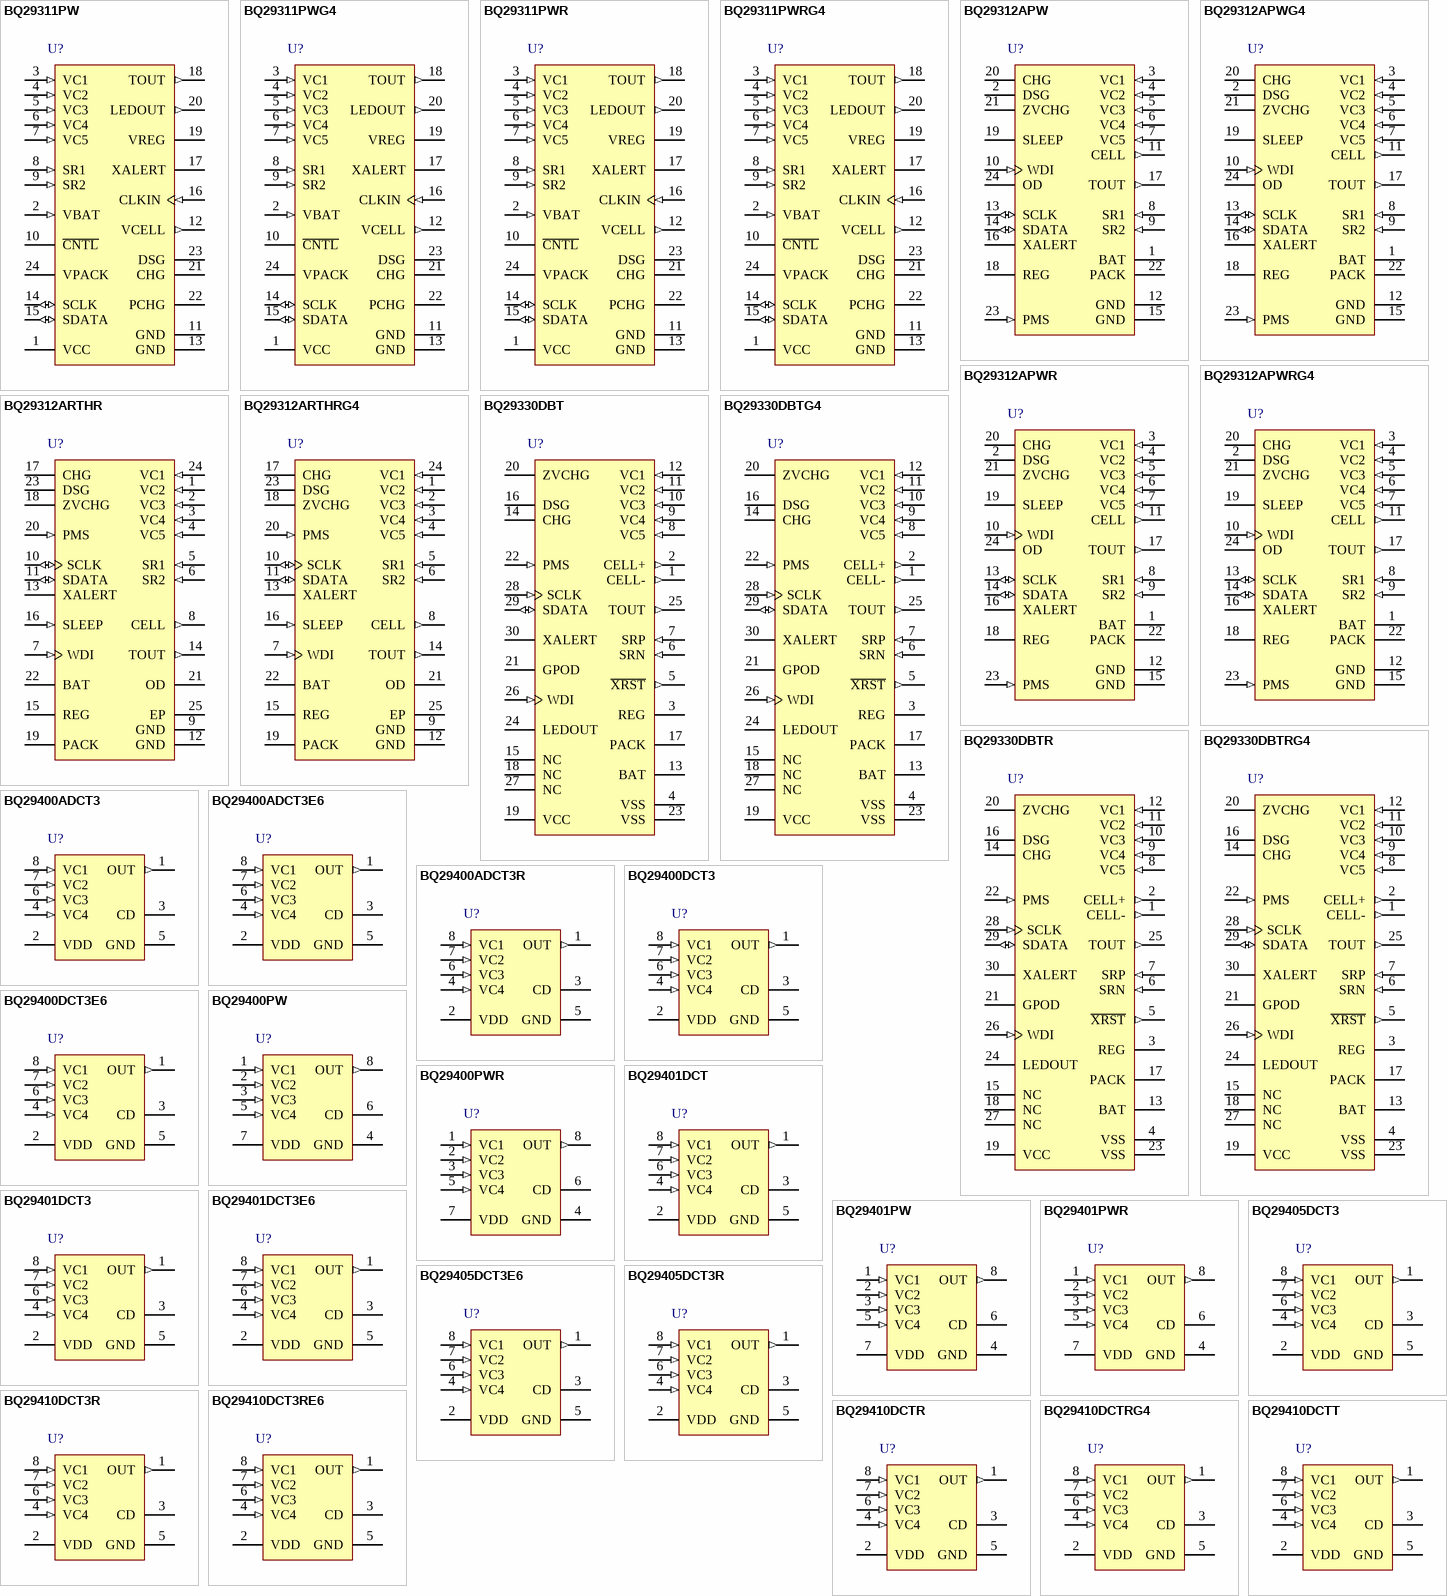
[diagram p30: symbols BQ29311PW to BQ29410DCTT]

## BQ29311PW
designator U?
3 to 4 Cell Lithium-Ion Protection IC for Use with BQ2083 / 5, -25 to 85 degC, 24-pin TSSOP (PW), Green (RoHS & no Sb/Br); PartNumber: BQ29311PW; Manufacturer: Texas Instruments; Lead Acid: N; Li-Ion: Y; SubFamily: Lithium Ion Protection; DatasheetVersion: SLUS487D; PackageVersion: revG, Feb-2011; PackageReference: PW24; PackageDescription: 24-Pin Thin Small Outline Package 0.65 mm Pitch; Supplier 1: Digi-Key; Supplier Part Number 1: 296-13067-5-ND; Supplier 2: Newark; Supplier Part Number 2: 80K5708; Supplier 3: Mouser; Supplier Part Number 3: 595-BQ29311PW; Eco-Plan: Green (RoHS & no Sb/Br); Li-Polymer: Y; NiCd: N; NiMH: N; Over Voltage Protection: Y; Mounting Technology: Surface Mount; Code_JEDEC: MO-153; ComponentLink1Description: Datasheet; ComponentLink1URL: http://www.ti.com/general/docs/lit/getliterature.tsp?genericPartNumber=BQ29311&fileType=pdf
footprint PW24_N (TSOP, 24-Leads, Body 7.8x4.4mm, Pitch 0.65mm, IPC Medium Density)
footprint PW24_L (TSOP, 24-Leads, Body 7.8x4.4mm, Pitch 0.65mm, IPC High Density)
footprint PW24_M (TSOP, 24-Leads, Body 7.8x4.4mm, Pitch 0.65mm, IPC Low Density)
pins: 1 VCC (power) "Diode protected BAT+ terminal and primary power source", 2 VBAT (in) "Battery positive terminal sense input for regulator shutdown", 3 VC1 (in) "Sense voltage input terminal for most positive cell and balance current input for most positive cell. Connected to VC2 in 3-cell applications", 4 VC2 (in) "Sense voltage input terminal for second most positive cell, balance current input for second most positive cell, and return balance current for most positive cell", 5 VC3 (in) "Sense voltage input terminal for third most positive cell, balance current input for third most positive cell and return balance current for second most positive cell", 6 VC4 (in) "Sense voltage input terminal for least positive cell, balance current input for least positive cell, and return balance current for third most positive cell", 7 VC5 (in) "Sense voltage input terminal for most negative cell, return balance current for least positive cell", 8 SR1 (in) "Current sense positive terminal when charging relative to SR2", 9 SR2 (in) "Current sense positive terminal when discharging relative to SR1", 10 ~{CNTL} "Active low input enables CHG, DSG and PCHG. Internal pullup", 11 GND (power) "Analog ground pin and negative pack terminal", 12 VCELL (out) "Output of scaled value of the measured cell voltage", 13 GND (power) "Analog ground pin and negative pack terminal", 14 SCLK (io) "Open-drain bidirectional serial interface clock with internal 10-kO pullup to VREG", 15 SDATA (io) "Open-drain bidirectional serial interface data with internal 10-kO pullup to VREG", 16 CLKIN (in) "Digital input that provides an alternate clock with internal 100-kO pullup to VREG", 17 XALERT (oc) "Open-drain output used to indicate status register changes. With internal 100 kO pullup to VREG", 18 TOUT (out) "Provides thermistor bias current", 19 VREG (power) "Integrated 3.3-V regulator output", 20 LEDOUT (out) "Provides current to drive LED capacity display", 21 CHG "Push-pull output charge FET gate voltage supply", 22 PCHG "Push-pull output precharge FET gate voltage supply", 23 DSG "Push-pull output discharge FET gate voltage supply", 24 VPACK (power) "Pack positive terminal and alternate power source"